# Altium schematic symbol library NSi8100NC.SchLib: 1 symbol
Pins are listed as number, name and electrical type; pins without a type are passive.

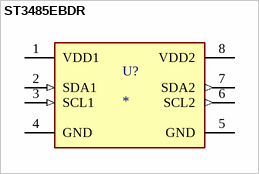
[diagram p0: symbol ST3485EBDR]

## ST3485EBDR
designator U?
1/1 Transceiver Half RS422, RS485 8-SOIC; MF: STMicroelectronics; MP: ST3485EBDR; SnapEDA_Link: https://www.snapeda.com/parts/ST3485EBDR/STMicroelectronics/view-part/?ref=snap; Package: SOIC-8 STMicroelectronics; Value: *; Check_prices: https://www.snapeda.com/parts/ST3485EBDR/STMicroelectronics/view-part/?ref=eda
footprint SOIC127P600X175-8N
pins: 1 VDD1 (power), 2 SDA1 (in), 3 SCL1 (in), 4 GND (power), 5 GND (power), 6 SCL2 (out), 7 SDA2 (out), 8 VDD2 (power)